# Altium schematic symbol library ECX-306.Schlib: 1 symbol
Pins are listed as number, name and electrical type; pins without a type are passive.

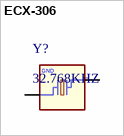
[diagram p0: symbol ECX-306]

## ECX-306
designator Y?, comment 32.768KHZ
CRYSTAL 32.768KHZ 12.5PF SMD
pins: 1, 4
text: GND